# EAGLE library part ADG453BR (library Radicon)
ADG441 LC2MOS Quad SPST Switches
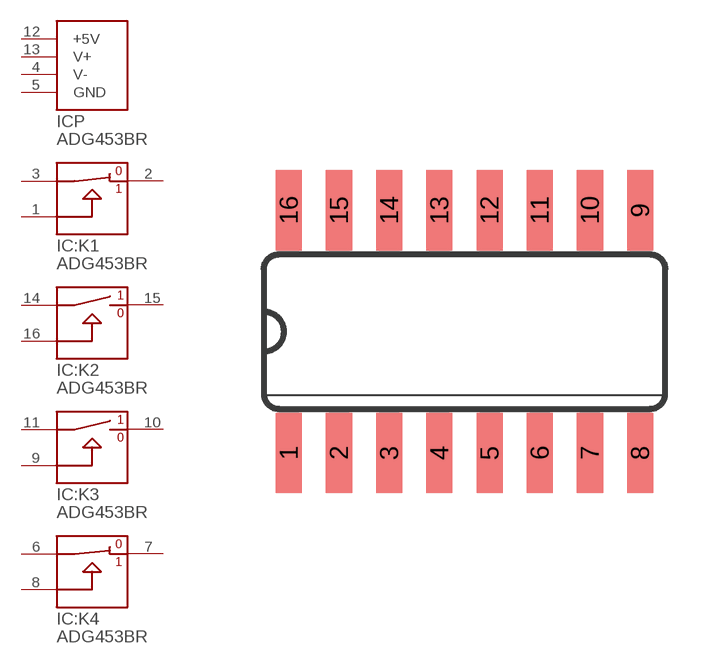
[diagram p31: symbol with the pads of SO16; footprint SO16]

Designator prefix IC; gates :K1=ADG_KEY_NC :K2=ADG_KEY_NO :K3=ADG_KEY_NO :K4=ADG_KEY_NC P=ADG_PWR2

## ADG453BR  [SO16]
1  :K1:CONTROL  in
2  :K1:D
3  :K1:S
4  P:V-  pwr
5  P:GND  pwr
6  :K4:S
7  :K4:D
8  :K4:CONTROL  in
9  :K3:CONTROL  in
10  :K3:D
11  :K3:S
12  P:+5V  pwr
13  P:V+  pwr
14  :K2:S
15  :K2:D
16  :K2:CONTROL  in

## Footprint SO16 (pad centres in mm)
Small Outline package 150 mil
smd 0.66 x 2.032: 1 -4.445,-3.073; 2 -3.175,-3.073; 3 -1.905,-3.073; 4 -0.635,-3.073; 5 0.635,-3.073; 6 1.905,-3.073; 7 3.175,-3.073; 8 4.445,-3.073; 9 4.445,3.073; 10 3.175,3.073; 11 1.905,3.073; 12 0.635,3.073; 13 -0.635,3.073; 14 -1.905,3.073; 15 -3.175,3.073; 16 -4.445,3.073